# EAGLE library part ATM13-3P-BM04 (library ATM13-3P-BM04)
Automotive Connectors RA Flng Mnt PCB Rcpt 3POS Gry Tin Cont Source: Datasheet <https://www.amphenol-sine.com/pdf/datasheet/ATM13-3P-BM04.pdf>
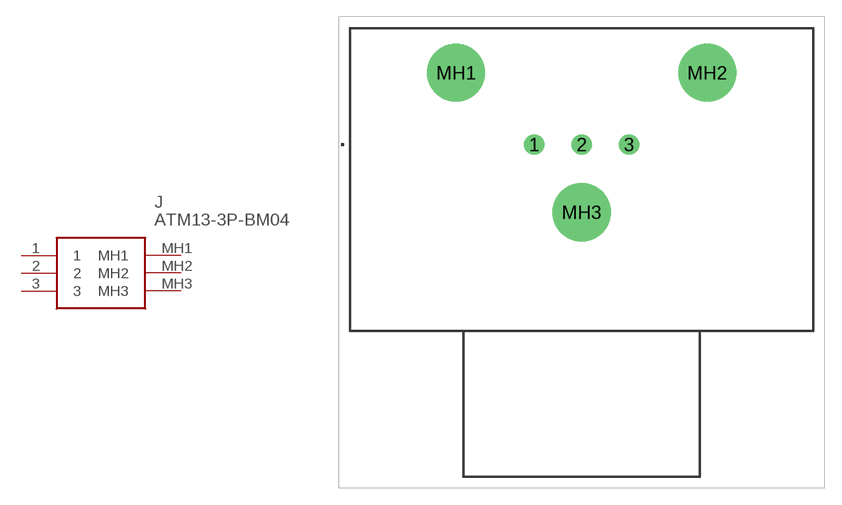
[diagram p0: symbol with the pads of ATM133PBM04; footprint ATM133PBM04]

Designator prefix J

## ATM13-3P-BM04 (Arrow_Part_Number: ATM13-3P-BM04; Arrow_Price-Stock: https://www.arrow.com/en/products/atm13-3p-bm04/amphenol-sine-systems?region=nac; Description: Automotive Connectors RA Flng Mnt PCB Rcpt 3POS Gry Tin Cont; Height: 28.8mm; Manufacturer_Name: Amphenol; Manufacturer_Part_Number: ATM13-3P-BM04; Mouser_Part_Number: 654-ATM13-3P-BM04; Mouser_Price-Stock: https://www.mouser.co.uk/ProductDetail/Amphenol-SINE-Systems/ATM13-3P-BM04?qs=0lSvoLzn4L%252BKLNuF8dKdNw%3D%3D)  [ATM133PBM04]
1  1
2  2
3  3
MH1  MH1
MH2  MH2
MH3  MH3

## Footprint ATM133PBM04 (pad centres in mm)
ATM13-3P-BM04-1
drill 1.2 pad 1.8: 1 0,0; 2 4.2,0; 3 8.4,0
drill 3.43 pad 5.145: MH1 -6.91,6.35; MH2 15.31,6.35; MH3 4.2,-6